# EAGLE library part TLV62568DRLT (library SamacSys_Parts)
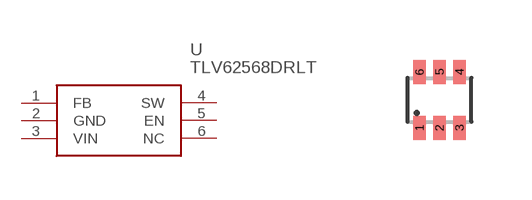
[diagram p0: symbol with the pads of SOT563; footprint SOT563]

Designator prefix -

## TLV62568DRLT  [SOT563]
1  FB  in
2  GND  pwr
3  VIN  pwr
4  SW  pwr
5  EN  in
6  NC  nc

## Footprint SOT563 (pad centres in mm)
SOT-563 Source: www.centralsemi.com ..SOT-563PD.pdf
smd 0.305 x 0.61: 1 -0.5,-0.7; 2 0,-0.7; 3 0.5,-0.7; 4 0.5,0.7; 5 0,0.7; 6 -0.5,0.7